# Altium schematic symbol library PMA3-63GLN&plus_.SchLib: 2 symbols
Pins are listed as number, name and electrical type; pins without a type are passive.

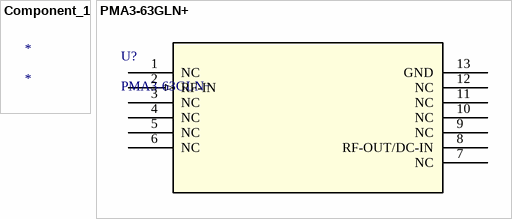
[diagram p0: symbols Component_1 to PMA3-63GLN+]

## Component_1
designator *

## PMA3-63GLN+
designator U?
No Description Available; Mfr_Name: Mini Circuits; Copyright: Copyright (C) 2023 Ultra Librarian. All rights reserved.; Manufacturer_Part_Number: PMA3-63GLN+; RefDes: RefDes; Type: DEV
footprint DQ1225_MNC
pins: 1 NC, 2 RF-IN (in), 3 NC, 4 NC, 5 NC, 6 NC, 7 NC, 8 RF-OUT/DC-IN, 9 NC, 10 NC, 11 NC, 12 NC, 13 GND (power)